# Altium schematic symbol library ICs_USB.SchLib: 17 symbols
Pins are listed as number, name and electrical type; pins without a type are passive.

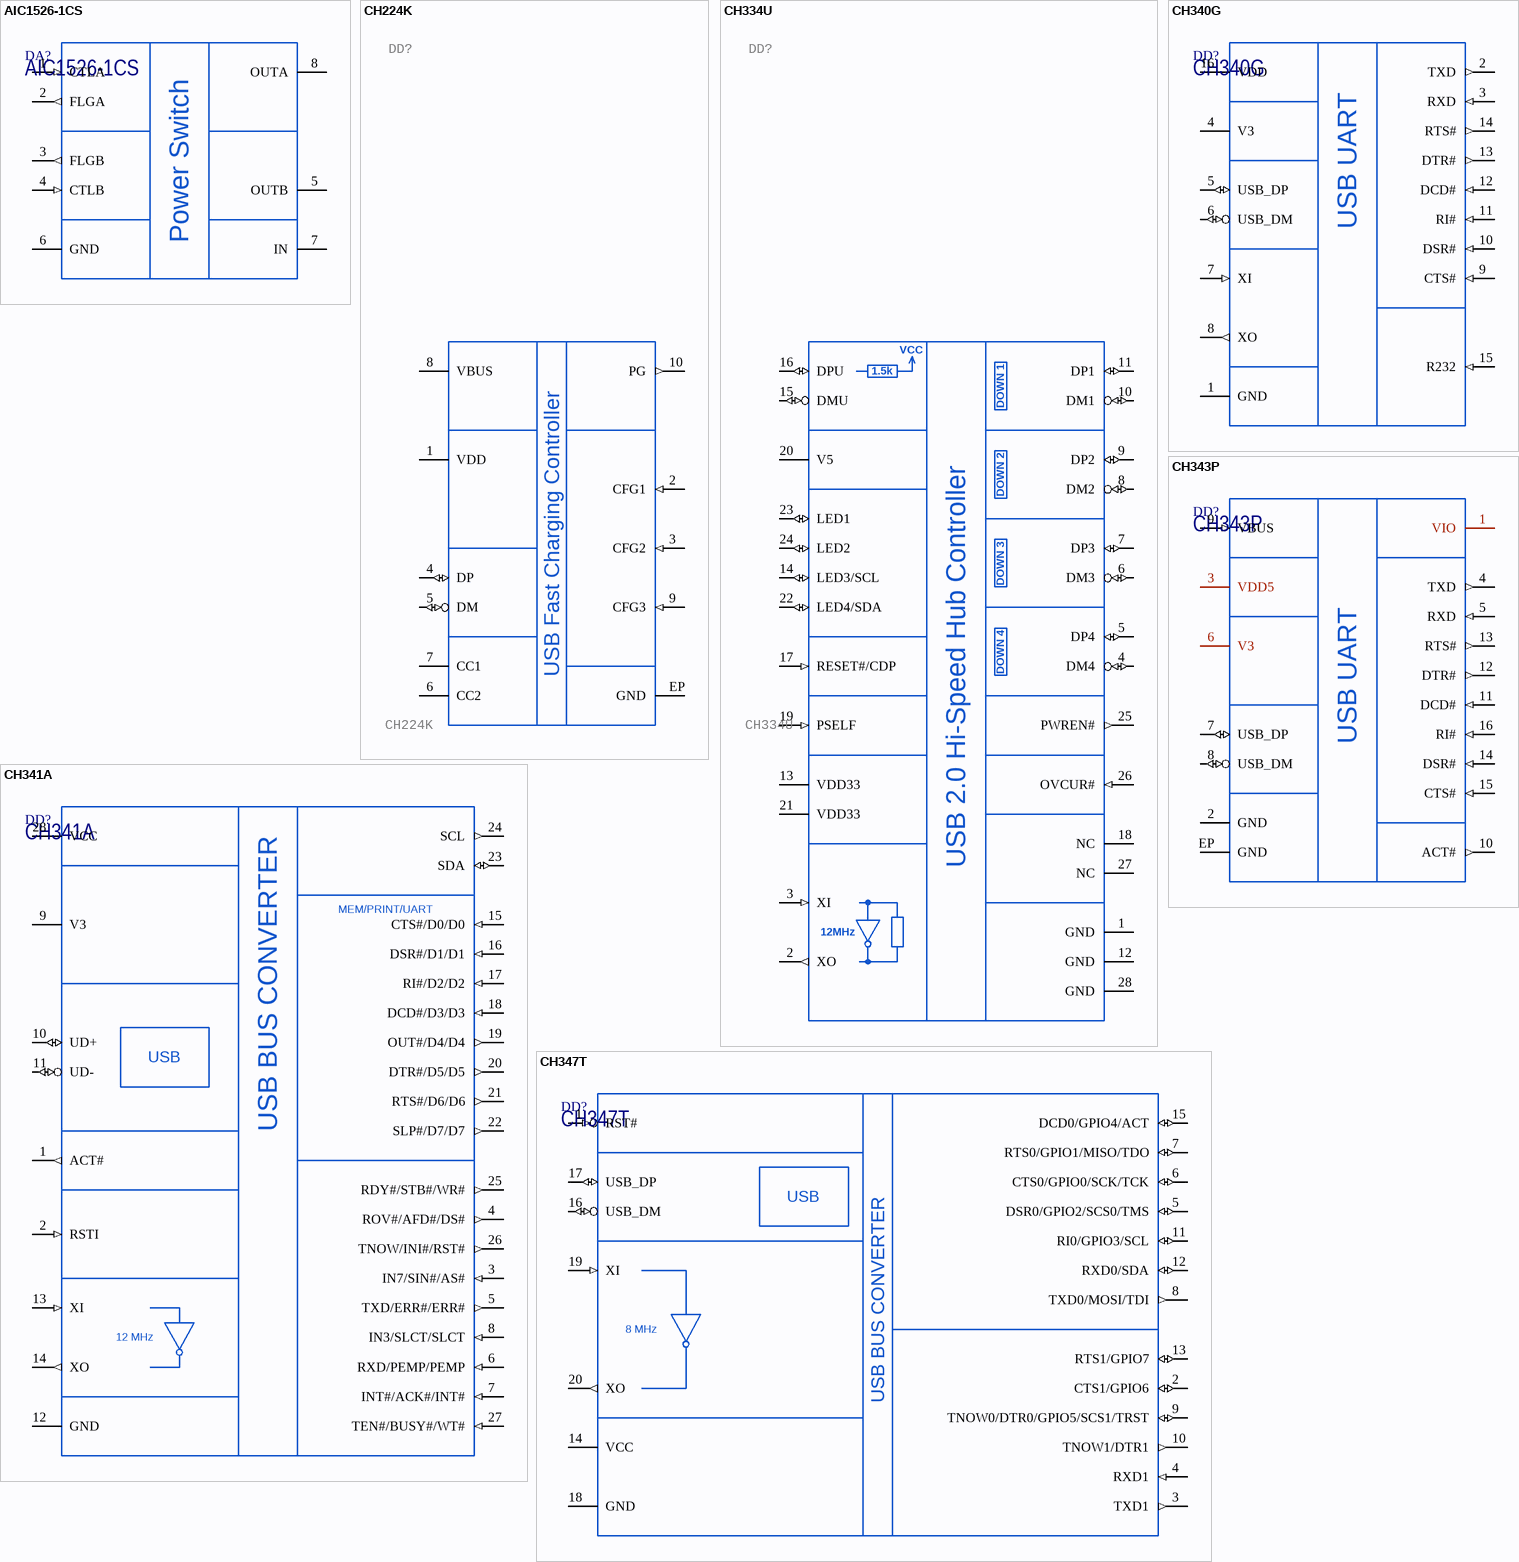
[diagram p0: symbols AIC1526-1CS to CH347T]

## AIC1526-1CS
designator DA?
Dual USB High-Side Power Switch Active High; Manufacturer: AIC; AltManufacturer1: MicroChip; Alternative1: MIC2026-1BM; ItemType: IC; Package: SOIC-8; PartNumber: AIC1526-1CS; Marking: AIC1526-1; ItemSubType: Power Switch; Mounting: SMD
footprint SOIC8_JEDEC_MS012AA (SOIC, 8-Leads, Body 3.90x4.90mm, Pitch 1.27mm)
pins: 1 CTLA (in), 2 FLGA (out), 3 FLGB (out), 4 CTLB (in), 5 OUTB (power), 6 GND, 7 IN (power), 8 OUTA (power)

## CH224K
designator DD?
USB PD and Other Fast Charging Protocol Sink Controller; Manufacturer: WinChipHead; ItemType: IC; ItemSubType: USB PD; PartNumber: CH224K; Package: ESSOP-10; Marking: CH224K; Mounting: SMD
footprint ESSOP10_WCH (Power ESSPO-8 package with exponsed pad)
pins: 1 VDD (power), 2 CFG1 (in), 3 CFG2 (in), 4 DP (io), 5 DM (io), 6 CC2, 7 CC1, 8 VBUS (power), 9 CFG3 (in), 10 PG (out), EP GND
text: USB Fast Charging Controller

## CH334U
designator DD?
USB 2.0 MMT Hi-Speed 4-port Hub Controller; Manufacturer: WinChipHead; ItemType: IC; ItemSubType: USB Hub; PartNumber: CH334U; Package: QSOP-28; Marking: CH334U; Mounting: SMD
footprint QSOP28_WCH (QSOP-28 with 0.635mm pitch)
pins: 1 GND, 2 XO (out), 3 XI (in), 4 DM4 (io), 5 DP4 (io), 6 DM3 (io), 7 DP3 (io), 8 DM2 (io), 9 DP2 (io), 10 DM1 (io), 11 DP1 (io), 12 GND, 13 VDD33 (power), 14 LED3/SCL (io), 15 DMU (io), 16 DPU (io), 17 RESET#/CDP (in), 18 NC (hiz), 19 PSELF (in), 20 V5 (power), 21 VDD33 (power), 22 LED4/SDA (io), 23 LED1 (io), 24 LED2 (io), 25 PWREN# (out), 26 OVCUR# (in), 27 NC (hiz), 28 GND
text: VCC; 1.5k; DOWN 1; DOWN 2; DOWN 3; DOWN 4; USB 2.0 Hi-Speed Hub Controller; 12MHz

## CH340G
designator DD?
USB to Serial Port Chip; Manufacturer: WinChipHead; ItemType: IC; ItemSubType: Bridge; Package: SOIC-16; PartNumber: CH340G; Marking: CH340G; Mounting: SMD
footprint SOIC16_JEDEC_MS012AC (SOIC, 16-Leads, Body 3.90x9.90mm, Pitch 1.27mm)
pins: 1 GND, 2 TXD (out), 3 RXD (in), 4 V3 (power), 5 USB_DP (io), 6 USB_DM (io), 7 XI (in), 8 XO (out), 9 CTS# (in), 10 DSR# (in), 11 RI# (in), 12 DCD# (in), 13 DTR# (out), 14 RTS# (out), 15 R232 (in), 16 VDD (power)
text: USB UART

## CH341A
designator DD?
USB Bus Converter; Manufacturer: WinChipHead; ItemType: IC; ItemSubType: Bridge; Package: SOP-28; PartNumber: CH341A; Mounting: SMD
footprint SOP28_WCH (SOP-28, 300 mil)
pins: 1 ACT# (out), 2 RSTI (in), 3 IN7/SIN#/AS# (in), 4 ROV#/AFD#/DS# (out), 5 TXD/ERR#/ERR# (out), 6 RXD/PEMP/PEMP (in), 7 INT#/ACK#/INT# (in), 8 IN3/SLCT/SLCT (in), 9 V3, 10 UD+ (io), 11 UD- (io), 12 GND, 13 XI (in), 14 XO (out), 15 CTS#/D0/D0 (in), 16 DSR#/D1/D1 (in), 17 RI#/D2/D2 (in), 18 DCD#/D3/D3 (in), 19 OUT#/D4/D4 (out), 20 DTR#/D5/D5 (out), 21 RTS#/D6/D6 (out), 22 SLP#/D7/D7 (out), 23 SDA (io), 24 SCL (out), 25 RDY#/STB#/WR# (out), 26 TNOW/INI#/RST# (out), 27 TEN#/BUSY#/WT# (in), 28 VCC (power)
text: MEM/PRINT/UART; USB BUS CONVERTER; USB; 12 MHz

## CH343P
designator DD?
USB to Serial Port Chip; Manufacturer: WinChipHead; ItemType: IC; ItemSubType: Bridge; Package: QFN-16; PartNumber: CH343P; Marking: CH343P; Mounting: SMD
footprint QFN16_CH343P (QFN16 3mm x 3mm, 0.5mm pitch)
pins: 1 VIO (power), 2 GND, 3 VDD5 (power), 4 TXD (out), 5 RXD (in), 6 V3 (power), 7 USB_DP (io), 8 USB_DM (io), 9 VBUS (in), 10 ACT# (out), 11 DCD# (in), 12 DTR# (out), 13 RTS# (out), 14 DSR# (in), 15 CTS# (in), 16 RI# (in), EP GND
text: USB UART

## CH347T
designator DD?
USB Bus Converter; Manufacturer: WinChipHead; ItemType: IC; ItemSubType: Bridge; Package: TSSOP-20; PartNumber: CH347T; Mounting: SMD
footprint TSSOP20_CH347T (TSSOP, 20-Leads, Body 6.50x4.40mm, Pitch 0.65mm)
pins: 1 RST# (in), 2 CTS1/GPIO6 (io), 3 TXD1 (out), 4 RXD1 (in), 5 DSR0/GPIO2/SCS0/TMS (io), 6 CTS0/GPIO0/SCK/TCK (io), 7 RTS0/GPIO1/MISO/TDO (io), 8 TXD0/MOSI/TDI (out), 9 TNOW0/DTR0/GPIO5/SCS1/TRST (io), 10 TNOW1/DTR1 (out), 11 RI0/GPIO3/SCL (io), 12 RXD0/SDA (io), 13 RTS1/GPIO7 (io), 14 VCC (power), 15 DCD0/GPIO4/ACT (io), 16 USB_DM (io), 17 USB_DP (io), 18 GND, 19 XI (in), 20 XO (out)
text: USB; USB BUS CONVERTER; 8 MHz

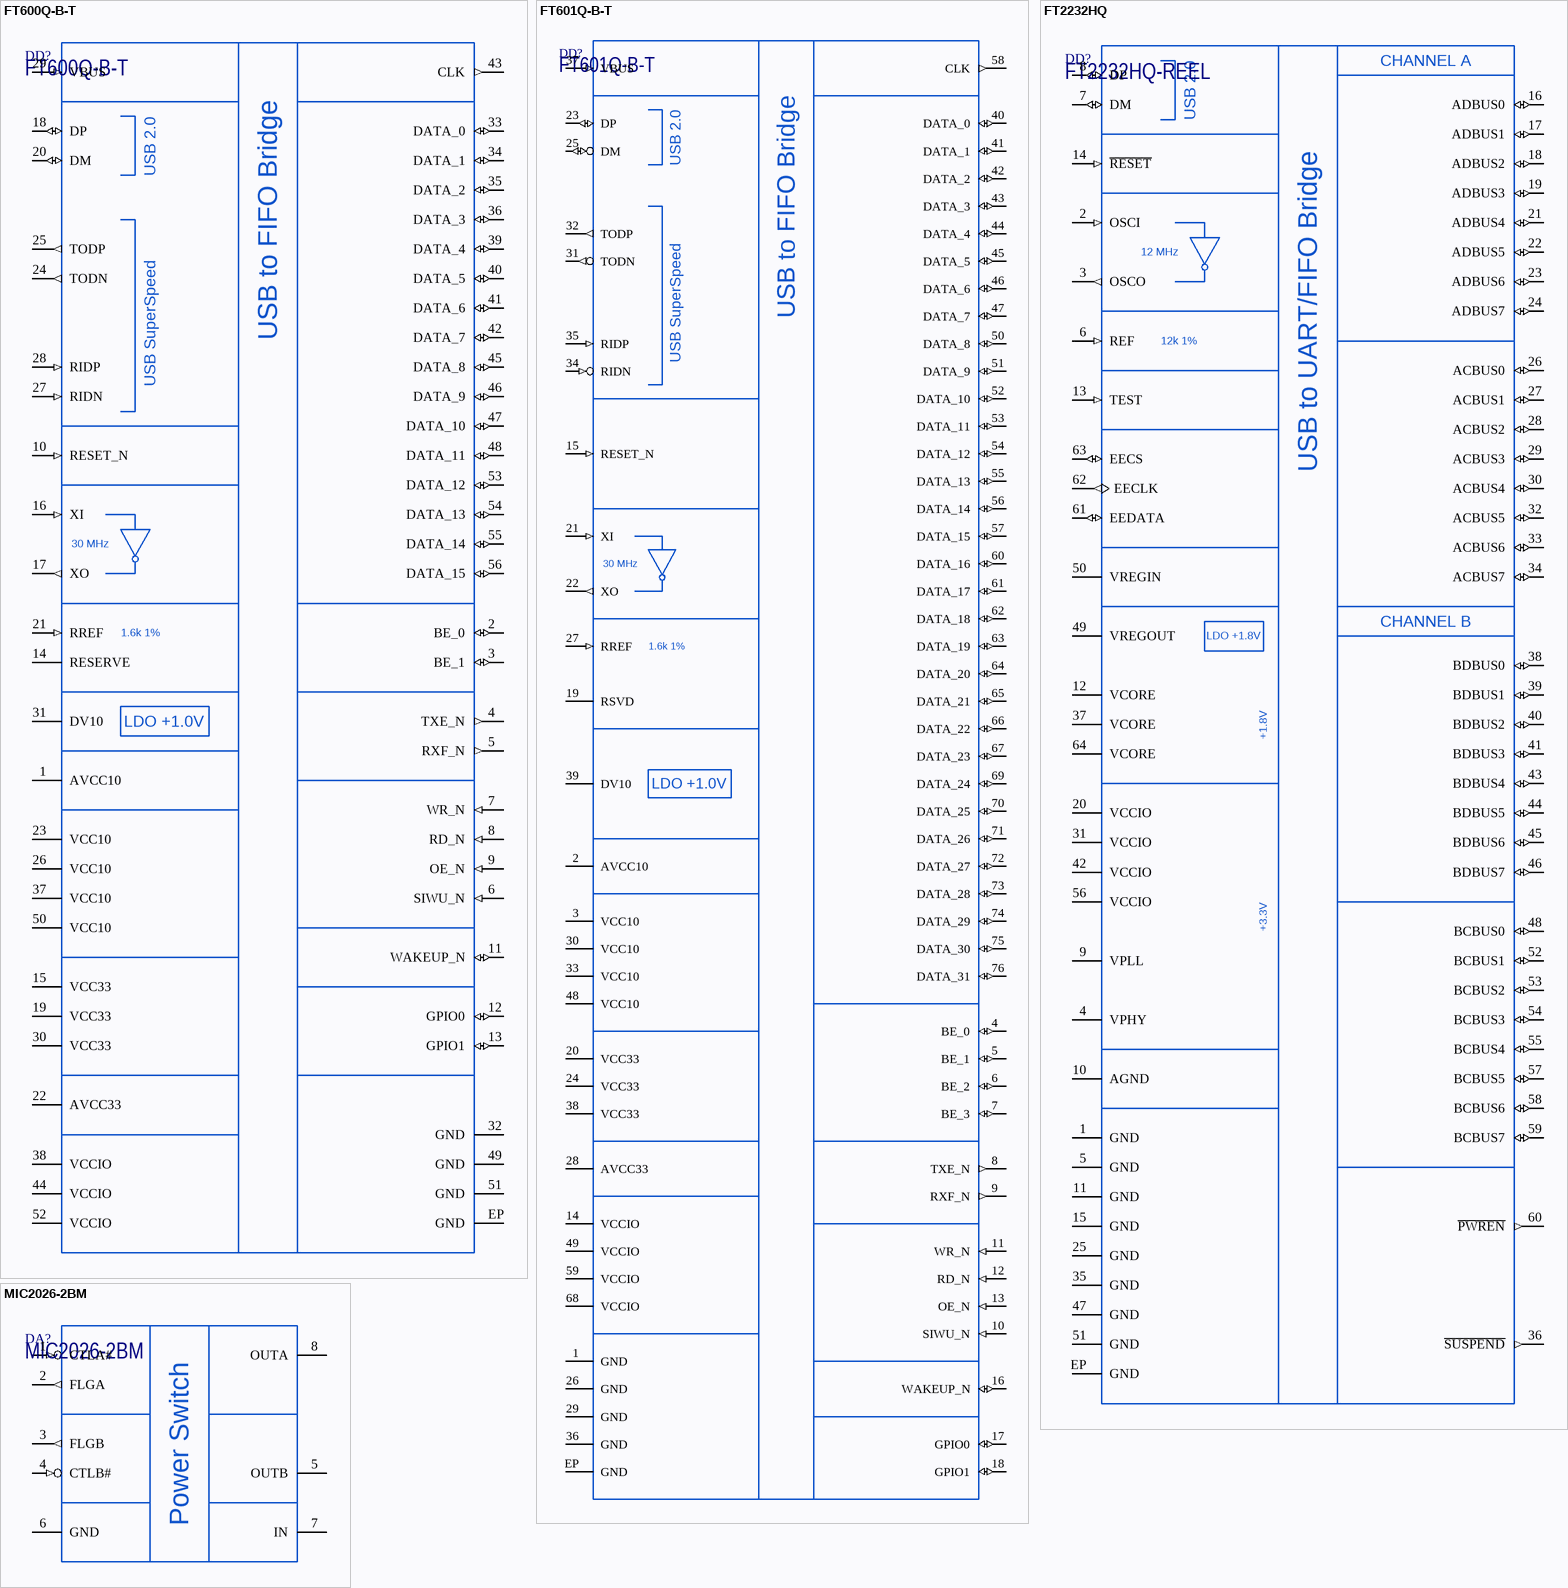
[diagram p1: symbols FT600Q-B-T to MIC2026-2BM]

## FT600Q-B-T
designator DD?
USB 3.0 to FIFO Bridge; Manufacturer: FTDI; ItemType: IC; Alternative1: FT600Q-B-R; Marking: FT600Q; Package: QFN-56; PartNumber: FT600Q-B-T; ItemSubType: FIFO; AltManufacturer1: FTDI; Mounting: SMD
footprint QFN56_FT600Q (QFN56, 7x7mm with 0.4mm pitch)
pins: 1 AVCC10 (power), 2 BE_0 (io), 3 BE_1 (io), 4 TXE_N (out), 5 RXF_N (out), 6 SIWU_N (in), 7 WR_N (in), 8 RD_N (in), 9 OE_N (in), 10 RESET_N (in), 11 WAKEUP_N (io), 12 GPIO0 (io), 13 GPIO1 (io), 14 RESERVE (hiz), 15 VCC33 (power), 16 XI (in), 17 XO (out), 18 DP (io), 19 VCC33 (power), 20 DM (io), 21 RREF (in), 22 AVCC33 (power), 23 VCC10 (power), 24 TODN (out), 25 TODP (out), 26 VCC10 (power), 27 RIDN (in), 28 RIDP (in), 29 VBUS (in), 30 VCC33 (power), 31 DV10 (power), 32 GND, 33 DATA_0 (io), 34 DATA_1 (io), 35 DATA_2 (io), 36 DATA_3 (io), 37 VCC10 (power), 38 VCCIO (power), 39 DATA_4 (io), 40 DATA_5 (io), 41 DATA_6 (io), 42 DATA_7 (io), 43 CLK (out), 44 VCCIO (power), 45 DATA_8 (io), 46 DATA_9 (io), 47 DATA_10 (io), 48 DATA_11 (io), 49 GND, 50 VCC10 (power), 51 GND, 52 VCCIO (power), 53 DATA_12 (io), 54 DATA_13 (io), 55 DATA_14 (io), 56 DATA_15 (io), EP GND
text: USB 2.0; USB to FIFO Bridge; USB SuperSpeed; 30 MHz; 1.6k 1%; LDO +1.0V

## FT601Q-B-T
designator DD?
USB 3.0 to FIFO Bridge; Manufacturer: FTDI; ItemType: IC; Alternative1: FT601Q-B-R; Marking: FT601Q; Package: QFN-76; PartNumber: FT601Q-B-T; ItemSubType: FIFO; AltManufacturer1: FTDI; Mounting: SMD
footprint QFN76_FT601Q (QFN76, 9x9mm with 0.4mm pitch)
pins: 1 GND, 2 AVCC10 (power), 3 VCC10 (power), 4 BE_0 (io), 5 BE_1 (io), 6 BE_2 (io), 7 BE_3 (io), 8 TXE_N (out), 9 RXF_N (out), 10 SIWU_N (in), 11 WR_N (in), 12 RD_N (in), 13 OE_N (in), 14 VCCIO (power), 15 RESET_N (in), 16 WAKEUP_N (io), 17 GPIO0 (io), 18 GPIO1 (io), 19 RSVD (hiz), 20 VCC33 (power), 21 XI (in), 22 XO (out), 23 DP (io), 24 VCC33 (power), 25 DM (io), 26 GND, 27 RREF (in), 28 AVCC33 (power), 29 GND, 30 VCC10 (power), 31 TODN (out), 32 TODP (out), 33 VCC10 (power), 34 RIDN (in), 35 RIDP (in), 36 GND, 37 VBUS (in), 38 VCC33 (power), 39 DV10 (power), 40 DATA_0 (io), 41 DATA_1 (io), 42 DATA_2 (io), 43 DATA_3 (io), 44 DATA_4 (io), 45 DATA_5 (io), 46 DATA_6 (io), 47 DATA_7 (io), 48 VCC10 (power), 49 VCCIO (power), 50 DATA_8 (io), 51 DATA_9 (io), 52 DATA_10 (io), 53 DATA_11 (io), 54 DATA_12 (io), 55 DATA_13 (io), 56 DATA_14 (io), 57 DATA_15 (io), 58 CLK (out), 59 VCCIO (power), 60 DATA_16 (io), 61 DATA_17 (io), 62 DATA_18 (io), 63 DATA_19 (io), 64 DATA_20 (io), 65 DATA_21 (io), 66 DATA_22 (io), 67 DATA_23 (io), 68 VCCIO (power), 69 DATA_24 (io), 70 DATA_25 (io), 71 DATA_26 (io), 72 DATA_27 (io), 73 DATA_28 (io), 74 DATA_29 (io), 75 DATA_30 (io), 76 DATA_31 (io), EP GND
text: USB 2.0; USB to FIFO Bridge; USB SuperSpeed; 30 MHz; 1.6k 1%; LDO +1.0V

## FT2232HQ
designator DD?, comment FT2232HQ-REEL
Dual High Speed USB to Multipurpose UART/FIFO IC; Manufacturer: FTDI; ItemSubType: FIFO; Alternative1: FT2232HQ-TRAY; Package: QFN-64; PartNumber: FT2232HQ-REEL; ItemType: IC; AltManufacturer1: FTDI; Mounting: SMD
footprint QFN64_FT2232HQ (QFN64 9mm x 9mm, 0.5mm pitch)
pins: 1 GND, 2 OSCI (in), 3 OSCO (out), 4 VPHY (power), 5 GND, 6 REF (in), 7 DM (io), 8 DP (io), 9 VPLL (power), 10 AGND (power), 11 GND, 12 VCORE (power), 13 TEST (in), 14 ~{RESET} (in), 15 GND, 16 ADBUS0 (io), 17 ADBUS1 (io), 18 ADBUS2 (io), 19 ADBUS3 (io), 20 VCCIO (power), 21 ADBUS4 (io), 22 ADBUS5 (io), 23 ADBUS6 (io), 24 ADBUS7 (io), 25 GND, 26 ACBUS0 (io), 27 ACBUS1 (io), 28 ACBUS2 (io), 29 ACBUS3 (io), 30 ACBUS4 (io), 31 VCCIO (power), 32 ACBUS5 (io), 33 ACBUS6 (io), 34 ACBUS7 (io), 35 GND, 36 ~{SUSPEND} (out), 37 VCORE (power), 38 BDBUS0 (io), 39 BDBUS1 (io), 40 BDBUS2 (io), 41 BDBUS3 (io), 42 VCCIO (power), 43 BDBUS4 (io), 44 BDBUS5 (io), 45 BDBUS6 (io), 46 BDBUS7 (io), 47 GND, 48 BCBUS0 (io), 49 VREGOUT (power), 50 VREGIN (power), 51 GND, 52 BCBUS1 (io), 53 BCBUS2 (io), 54 BCBUS3 (io), 55 BCBUS4 (io), 56 VCCIO (power), 57 BCBUS5 (io), 58 BCBUS6 (io), 59 BCBUS7 (io), 60 ~{PWREN} (out), 61 EEDATA (io), 62 EECLK (out), 63 EECS (io), 64 VCORE (power), EP GND
text: CHANNEL A; USB 2.0; 12 MHz; USB to UART/FIFO Bridge; 12k 1%; CHANNEL B; LDO +1.8V; +1.8V; +3.3V

## MIC2026-2BM
designator DA?
Dual USB High-Side Power Switch Active Low; Manufacturer: MicroChip; AltManufacturer1: AIC; Alternative1: AIC1526-0CS; ItemType: IC; Package: SOIC-8; PartNumber: MIC2026-2BM; Marking: 2026-2BM; ItemSubType: Power Switch; Mounting: SMD
footprint SOIC8_JEDEC_MS012AA (SOIC, 8-Leads, Body 3.90x4.90mm, Pitch 1.27mm)
pins: 1 CTLA# (in), 2 FLGA (out), 3 FLGB (out), 4 CTLB# (in), 5 OUTB (power), 6 GND, 7 IN (power), 8 OUTA (power)

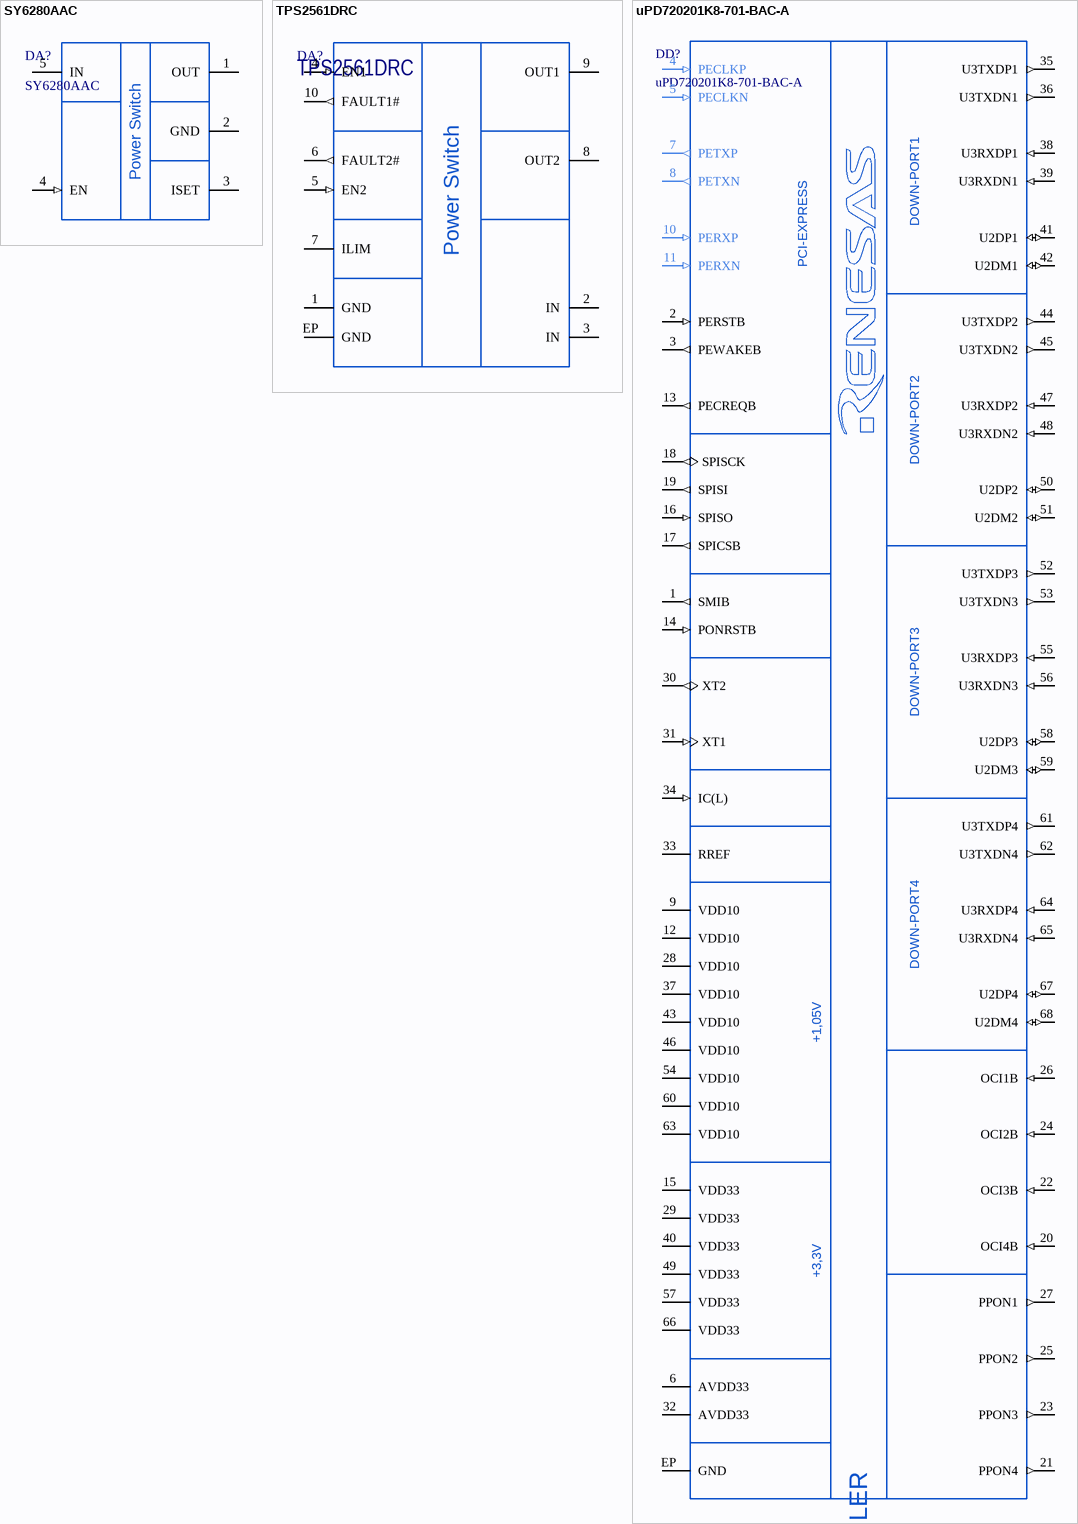
[diagram p2: symbols SY6280AAC to uPD720201K8-701-BAC-A]

## SY6280AAC
designator DA?
Power Distribution Switch; Manufacturer: Silergy Corp.; Marking: COxxx; ItemType: IC; ItemSubType: Power Switch; PartNumber: SY6280AAC; Package: SOT23-5; Mounting: SMD
footprint SOT235_JEDEC_MO178AA (SOT23, 5-Leads, Body 1.60x2.90mm, Pitch 0.95mm)
pins: 1 OUT (power), 2 GND, 3 ISET, 4 EN (in), 5 IN (power)

## TPS2561DRC
designator DA?
Dual USB High-Side Power Switch Active High; Manufacturer: Texas Instruments; Marking: 2561; ItemType: IC; Package: VSON-10; PartNumber: TPS2561DRC; ItemSubType: Power Switch; Mounting: SMD
footprint VSON10_DRC0010J (VSON10, 3mm x 3mm TI Reference DRC0010J)
footprint VSON10_WITH_SOIC8 (DRC0010J TPS2561DRC with SOIC, 8-Leads, Body 3.90x4.90mm, Pitch 1.27mm AIC1526)
footprint VSON10_WITH_SOIC8_NO_PASTE (DRC0010J TPS2561DRC with SOIC, 8-Leads, Body 3.90x4.90mm, Pitch 1.27mm AIC1526)
pins: 1 GND, 2 IN (power), 3 IN (power), 4 EN1 (in), 5 EN2 (in), 6 FAULT2# (out), 7 ILIM, 8 OUT2 (power), 9 OUT1 (power), 10 FAULT1# (out), EP GND

## uPD720201K8-701-BAC-A
designator DD?
USB3.0 HOST CONTROLLER; Manufacturer: Renesas; ItemType: IC; ItemSubType: USB Hub; PartNumber: uPD720201K8-701-BAC-A; Package: QFN-68 (8x8mm); Marking: D720201; Mounting: SMD
footprint QFN68_uPD720201 (QFN68, 8x8mm with 0.4mm pitch)
pins: 1 SMIB (out), 2 PERSTB (in), 3 PEWAKEB (out), 4 PECLKP (in), 5 PECLKN (in), 6 AVDD33 (power), 7 PETXP (out), 8 PETXN (out), 9 VDD10 (power), 10 PERXP (in), 11 PERXN (in), 12 VDD10 (power), 13 PECREQB (out), 14 PONRSTB (in), 15 VDD33 (power), 16 SPISO (in), 17 SPICSB (out), 18 SPISCK (out), 19 SPISI (out), 20 OCI4B (in), 21 PPON4 (out), 22 OCI3B (in), 23 PPON3 (out), 24 OCI2B (in), 25 PPON2 (out), 26 OCI1B (in), 27 PPON1 (out), 28 VDD10 (power), 29 VDD33 (power), 30 XT2 (out), 31 XT1 (in), 32 AVDD33 (power), 33 RREF, 34 IC(L) (in), 35 U3TXDP1 (out), 36 U3TXDN1 (out), 37 VDD10 (power), 38 U3RXDP1 (in), 39 U3RXDN1 (in), 40 VDD33 (power), 41 U2DP1 (io), 42 U2DM1 (io), 43 VDD10 (power), 44 U3TXDP2 (out), 45 U3TXDN2 (out), 46 VDD10 (power), 47 U3RXDP2 (in), 48 U3RXDN2 (in), 49 VDD33 (power), 50 U2DP2 (io), 51 U2DM2 (io), 52 U3TXDP3 (out), 53 U3TXDN3 (out), 54 VDD10 (power), 55 U3RXDP3 (in), 56 U3RXDN3 (in), 57 VDD33 (power), 58 U2DP3 (io), 59 U2DM3 (io), 60 VDD10 (power), 61 U3TXDP4 (out), 62 U3TXDN4 (out), 63 VDD10 (power), 64 U3RXDP4 (in), 65 U3RXDN4 (in), 66 VDD33 (power), 67 U2DP4 (io), 68 U2DM4 (io), EP GND
text: DOWN-PORT1; PCI-EXPRESS; DOWN-PORT2; DOWN-PORT3; DOWN-PORT4; +1,05V; +3,3V

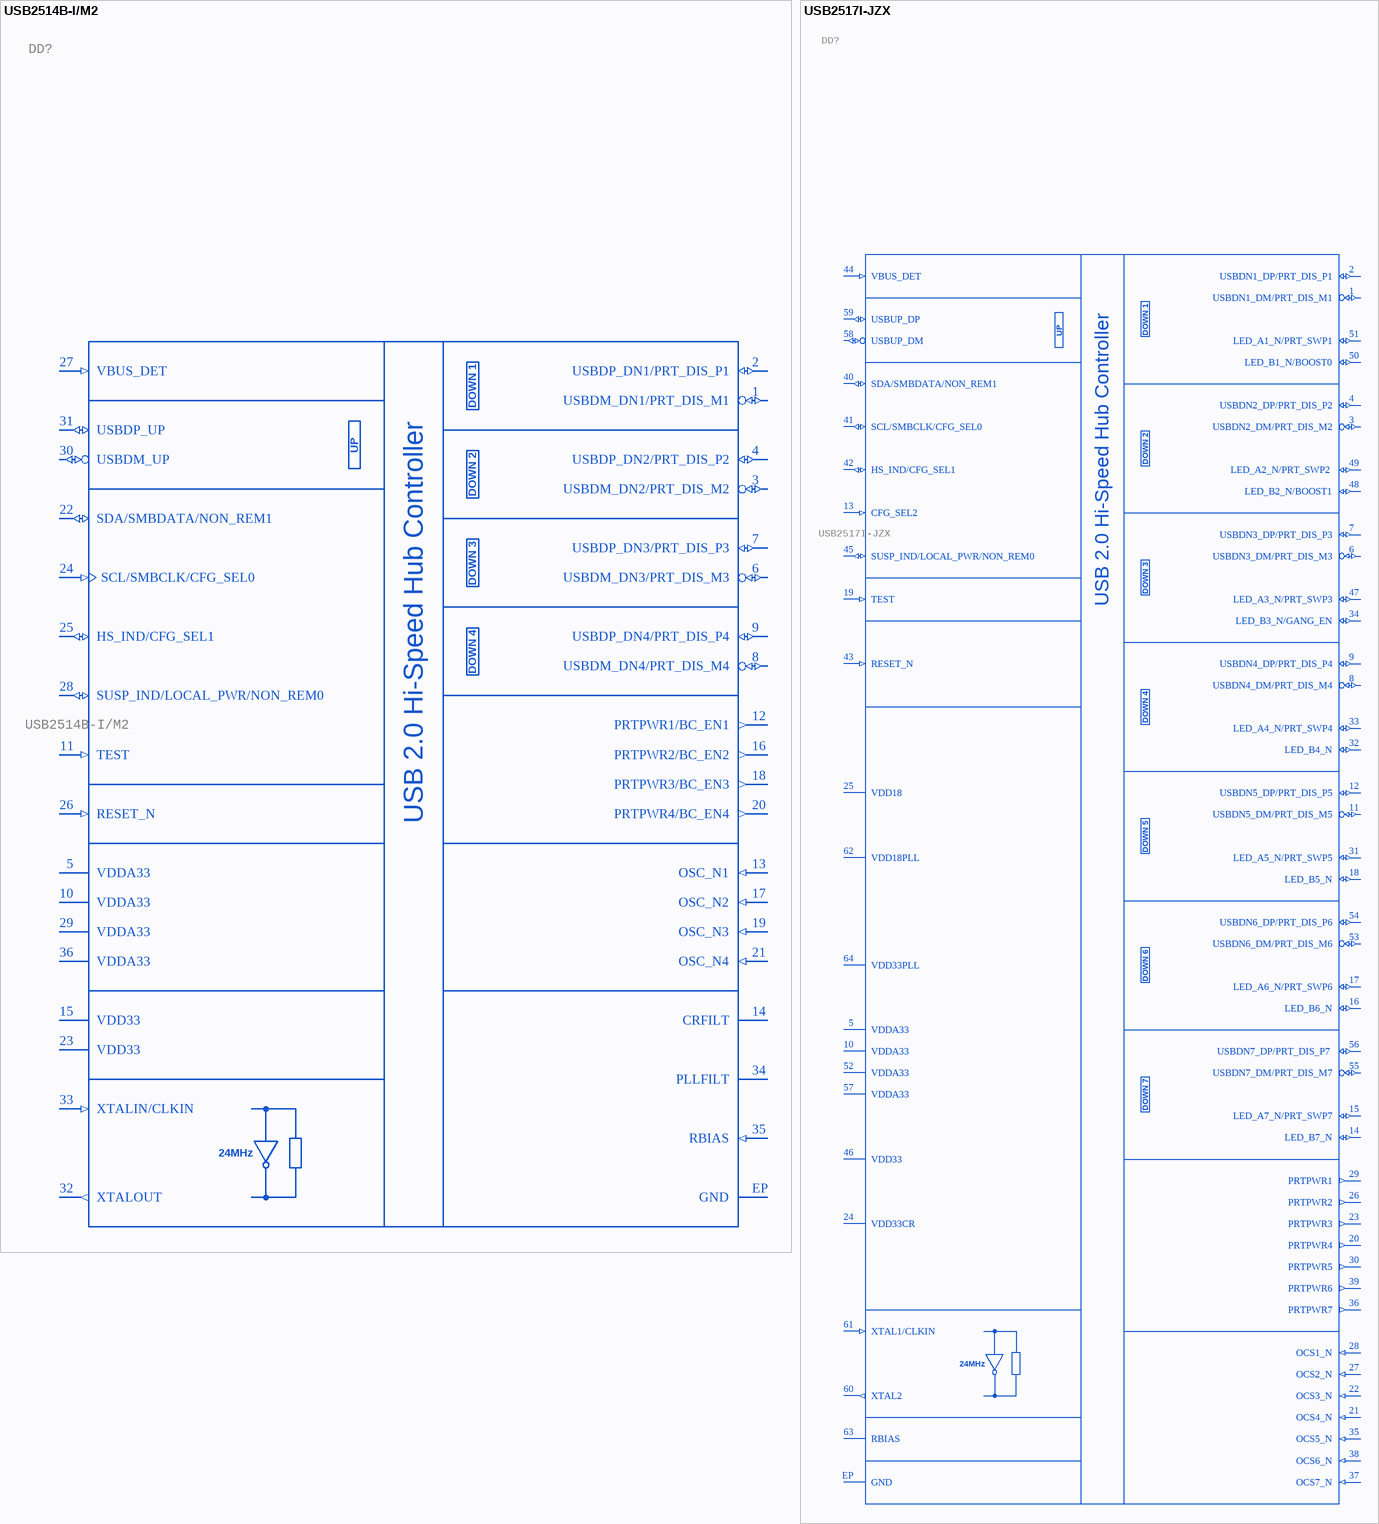
[diagram p3: symbols USB2514B-I/M2 to USB2517I-JZX]

## USB2514B-I/M2
designator DD?
USB 2.0 MMT Hi-Speed 4-port Hub Controller; Manufacturer: MicroChip; ItemType: IC; ItemSubType: USB Hub; PartNumber: USB2514B-I/M2; Package: QFN-36; Mounting: SMD
footprint QFN36_USB2514 (QFN, 36-Leads, Body 6x6mm, Pitch 0.50mm, Thermal Pad 3.70x3.70mm.)
pins: 1 USBDM_DN1/PRT_DIS_M1 (io), 2 USBDP_DN1/PRT_DIS_P1 (io), 3 USBDM_DN2/PRT_DIS_M2 (io), 4 USBDP_DN2/PRT_DIS_P2 (io), 5 VDDA33 (power), 6 USBDM_DN3/PRT_DIS_M3 (io), 7 USBDP_DN3/PRT_DIS_P3 (io), 8 USBDM_DN4/PRT_DIS_M4 (io), 9 USBDP_DN4/PRT_DIS_P4 (io), 10 VDDA33 (power), 11 TEST (in), 12 PRTPWR1/BC_EN1 (out), 13 OSC_N1 (in), 14 CRFILT, 15 VDD33 (power), 16 PRTPWR2/BC_EN2 (out), 17 OSC_N2 (in), 18 PRTPWR3/BC_EN3 (out), 19 OSC_N3 (in), 20 PRTPWR4/BC_EN4 (out), 21 OSC_N4 (in), 22 SDA/SMBDATA/NON_REM1 (io), 23 VDD33 (power), 24 SCL/SMBCLK/CFG_SEL0 (in), 25 HS_IND/CFG_SEL1 (io), 26 RESET_N (in), 27 VBUS_DET (in), 28 SUSP_IND/LOCAL_PWR/NON_REM0 (io), 29 VDDA33 (power), 30 USBDM_UP (io), 31 USBDP_UP (io), 32 XTALOUT (out), 33 XTALIN/CLKIN (in), 34 PLLFILT, 35 RBIAS (in), 36 VDDA33 (power), EP GND
text: DOWN 1; UP; DOWN 2; DOWN 3; USB 2.0 Hi-Speed Hub Controller; DOWN 4; 24MHz

## USB2517I-JZX
designator DD?
USB 2.0 MMT Hi-Speed 7-port Hub Controller; Manufacturer: MicroChip; ItemType: IC; ItemSubType: USB Hub; Alternative1: USB2517-JZX; PartNumber: USB2517I-JZX; Package: QFN-64; AltManufacturer1: MicroChip; Mounting: SMD
footprint QFN64_USB2517 (QFN64 9mm x 9mm, 0.5mm pitch)
pins: 1 USBDN1_DM/PRT_DIS_M1 (io), 2 USBDN1_DP/PRT_DIS_P1 (io), 3 USBDN2_DM/PRT_DIS_M2 (io), 4 USBDN2_DP/PRT_DIS_P2 (io), 5 VDDA33 (power), 6 USBDN3_DM/PRT_DIS_M3 (io), 7 USBDN3_DP/PRT_DIS_P3 (io), 8 USBDN4_DM/PRT_DIS_M4 (io), 9 USBDN4_DP/PRT_DIS_P4 (io), 10 VDDA33 (power), 11 USBDN5_DM/PRT_DIS_M5 (io), 12 USBDN5_DP/PRT_DIS_P5 (io), 13 CFG_SEL2 (in), 14 LED_B7_N (io), 15 LED_A7_N/PRT_SWP7 (io), 16 LED_B6_N (io), 17 LED_A6_N/PRT_SWP6 (io), 18 LED_B5_N (io), 19 TEST (in), 20 PRTPWR4 (out), 21 OCS4_N (in), 22 OCS3_N (in), 23 PRTPWR3 (out), 24 VDD33CR (power), 25 VDD18 (power), 26 PRTPWR2 (out), 27 OCS2_N (in), 28 OCS1_N (in), 29 PRTPWR1 (out), 30 PRTPWR5 (out), 31 LED_A5_N/PRT_SWP5 (io), 32 LED_B4_N (io), 33 LED_A4_N/PRT_SWP4 (io), 34 LED_B3_N/GANG_EN (io), 35 OCS5_N (in), 36 PRTPWR7 (out), 37 OCS7_N (in), 38 OCS6_N (in), 39 PRTPWR6 (out), 40 SDA/SMBDATA/NON_REM1 (io), 41 SCL/SMBCLK/CFG_SEL0 (io), 42 HS_IND/CFG_SEL1 (io), 43 RESET_N (in), 44 VBUS_DET (in), 45 SUSP_IND/LOCAL_PWR/NON_REM0 (io), 46 VDD33 (power), 47 LED_A3_N/PRT_SWP3 (io), 48 LED_B2_N/BOOST1 (io), 49 LED_A2_N/PRT_SWP2  (io), 50 LED_B1_N/BOOST0 (io), 51 LED_A1_N/PRT_SWP1 (io), 52 VDDA33 (power), 53 USBDN6_DM/PRT_DIS_M6 (io), 54 USBDN6_DP/PRT_DIS_P6 (io), 55 USBDN7_DM/PRT_DIS_M7 (io), 56 USBDN7_DP/PRT_DIS_P7  (io), 57 VDDA33 (power), 58 USBUP_DM (io), 59 USBUP_DP (io), 60 XTAL2 (out), 61 XTAL1/CLKIN (in), 62 VDD18PLL (power), 63 RBIAS, 64 VDD33PLL (power), EP GND
text: DOWN 1; UP; DOWN 2; USB 2.0 Hi-Speed Hub Controller; DOWN 3; DOWN 4; DOWN 5; DOWN 6; DOWN 7; 24MHz

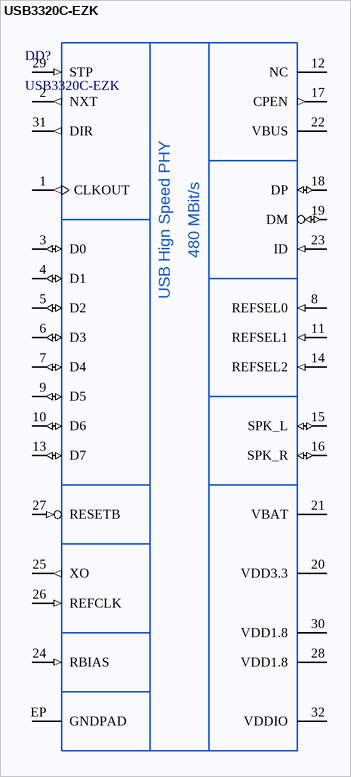
[diagram p4: symbol USB3320C-EZK]

## USB3320C-EZK
designator DD?
Hi-Speed USB 2.0 ULPI Transceiver; Manufacturer: MicroChip; ItemType: IC; ItemSubType: USB PHY; PartNumber: USB3320C-EZK; Package: QFN-32; Mounting: SMD
footprint QFN32_USB3220C (QFN, 32-Leads, Body 5x5mm, Pitch 0.50mm, Thermal Pad 3.30x3.30mm.)
pins: 1 CLKOUT (out), 2 NXT (out), 3 D0 (io), 4 D1 (io), 5 D2 (io), 6 D3 (io), 7 D4 (io), 8 REFSEL0 (in), 9 D5 (io), 10 D6 (io), 11 REFSEL1 (in), 12 NC (hiz), 13 D7 (io), 14 REFSEL2 (in), 15 SPK_L (io), 16 SPK_R (io), 17 CPEN (out), 18 DP (io), 19 DM (io), 20 VDD3.3 (power), 21 VBAT, 22 VBUS, 23 ID (in), 24 RBIAS (in), 25 XO (out), 26 REFCLK (in), 27 RESETB (in), 28 VDD1.8 (power), 29 STP (in), 30 VDD1.8 (power), 31 DIR (out), 32 VDDIO (power), EP GNDPAD (power)
text: USB Hign Speed PHY; 480 MBit/s